# Altium schematic symbol library IAUA220N08S5N021AUMA1.SchLib: 1 symbol
Pins are listed as number, name and electrical type; pins without a type are passive.

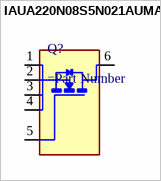
[diagram p0: symbol IAUA220N08S5N021AUMA1]

## IAUA220N08S5N021AUMA1
designator Q?
=Description
pins: 1 S, 2 S, 3 S, 4 S, 5 G, 6 D